# EAGLE library part STM32_VALUE_LINE_DISCOVERY (library stm32lvdiscovery)
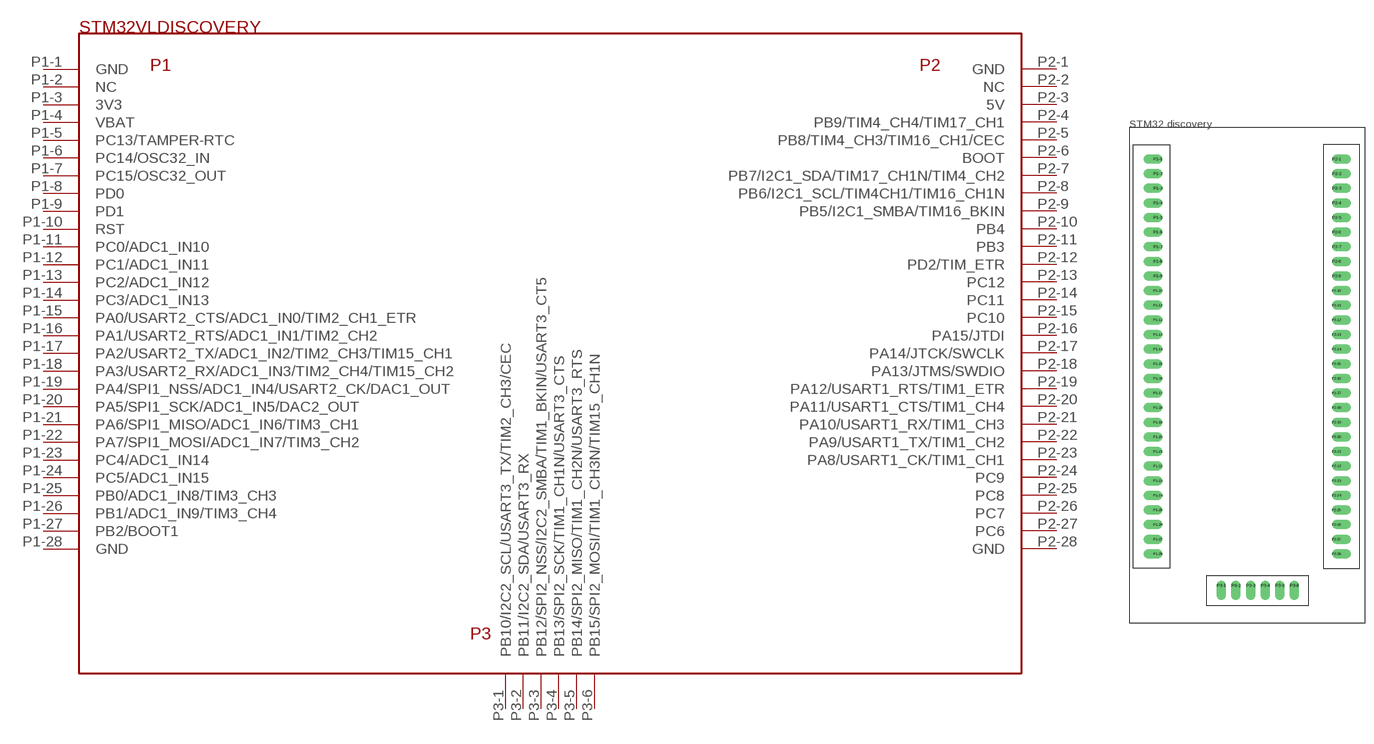
[diagram p0: symbol with the pads of STM32_VALUE_LINE_DISCOVERY; footprint STM32_VALUE_LINE_DISCOVERY]

Designator prefix -

## STM32_VALUE_LINE_DISCOVERY  [STM32_VALUE_LINE_DISCOVERY]
P1-1  GND  pwr
P1-2  NC
P1-3  3V3  pwr
P1-4  VBAT
P1-5  PC13/TAMPER-RTC
P1-6  PC14/OSC32_IN
P1-7  PC15/OSC32_OUT
P1-8  PD0
P1-9  PD1
P1-10  RST
P1-11  PC0/ADC1_IN10
P1-12  PC1/ADC1_IN11
P1-13  PC2/ADC1_IN12
P1-14  PC3/ADC1_IN13
P1-15  PA0/USART2_CTS/ADC1_IN0/TIM2_CH1_ETR
P1-16  PA1/USART2_RTS/ADC1_IN1/TIM2_CH2
P1-17  PA2/USART2_TX/ADC1_IN2/TIM2_CH3/TIM15_CH1
P1-18  PA3/USART2_RX/ADC1_IN3/TIM2_CH4/TIM15_CH2
P1-19  PA4/SPI1_NSS/ADC1_IN4/USART2_CK/DAC1_OUT
P1-20  PA5/SPI1_SCK/ADC1_IN5/DAC2_OUT
P1-21  PA6/SPI1_MISO/ADC1_IN6/TIM3_CH1
P1-22  PA7/SPI1_MOSI/ADC1_IN7/TIM3_CH2
P1-23  PC4/ADC1_IN14
P1-24  PC5/ADC1_IN15
P1-25  PB0/ADC1_IN8/TIM3_CH3
P1-26  PB1/ADC1_IN9/TIM3_CH4
P1-27  PB2/BOOT1
P1-28  GND  pwr
P2-1  GND  pwr
P2-2  NC
P2-3  5V  pwr
P2-4  PB9/TIM4_CH4/TIM17_CH1
P2-5  PB8/TIM4_CH3/TIM16_CH1/CEC
P2-6  BOOT
P2-7  PB7/I2C1_SDA/TIM17_CH1N/TIM4_CH2
P2-8  PB6/I2C1_SCL/TIM4CH1/TIM16_CH1N
P2-9  PB5/I2C1_SMBA/TIM16_BKIN
P2-10  PB4
P2-11  PB3
P2-12  PD2/TIM_ETR
P2-13  PC12
P2-14  PC11
P2-15  PC10
P2-16  PA15/JTDI
P2-17  PA14/JTCK/SWCLK
P2-18  PA13/JTMS/SWDIO
P2-19  PA12/USART1_RTS/TIM1_ETR
P2-20  PA11/USART1_CTS/TIM1_CH4
P2-21  PA10/USART1_RX/TIM1_CH3
P2-22  PA9/USART1_TX/TIM1_CH2
P2-23  PA8/USART1_CK/TIM1_CH1
P2-24  PC9
P2-25  PC8
P2-26  PC7
P2-27  PC6
P2-28  GND  pwr
P3-1  PB10/I2C2_SCL/USART3_TX/TIM2_CH3/CEC
P3-2  PB11/I2C2_SDA/USART3_RX
P3-3  PB12/SPI2_NSS/I2C2_SMBA/TIM1_BKIN/USART3_CT5
P3-4  PB13/SPI2_SCK/TIM1_CH1N/USART3_CTS
P3-5  PB14/SPI2_MISO/TIM1_CH2N/USART3_RTS
P3-6  PB15/SPI2_MOSI/TIM1_CH3N/TIM15_CH1N

## Footprint STM32_VALUE_LINE_DISCOVERY (pad centres in mm)
drill 1 pad 1.676 offset: P1-1 -16,35.58; P1-2 -16,33.04; P1-3 -16,30.5; P1-4 -16,27.96; P1-5 -16,25.42; P1-6 -16,22.88; P1-7 -16,20.34; P1-8 -16,17.8; P1-9 -16,15.26; P1-10 -16,12.72; P1-11 -16,10.18; P1-12 -16,7.64; P1-13 -16,5.1; P1-14 -16,2.56; P1-15 -16,0.02; P1-16 -16,-2.52; P1-17 -16,-5.06; P1-18 -16,-7.6; P1-19 -16,-10.14; P1-20 -16,-12.68; P1-21 -16,-15.22; P1-22 -16,-17.76; P1-23 -16,-20.3; P1-24 -16,-22.84; P1-25 -16,-25.38; P1-26 -16,-27.92; P1-27 -16,-30.46; P1-28 -16,-33; P2-1 15,35.58; P2-2 15,33.04; P2-3 15,30.5; P2-4 15,27.96; P2-5 15,25.42; P2-6 15,22.88; P2-7 15,20.34; P2-8 15,17.8; P2-9 15,15.26; P2-10 15,12.72; P2-11 15,10.18; P2-12 15,7.64; P2-13 15,5.1; P2-14 15,2.56; P2-15 15,0.02; P2-16 15,-2.52; P2-17 15,-5.06; P2-18 15,-7.6; P2-19 15,-10.14; P2-20 15,-12.68; P2-21 15,-15.22; P2-22 15,-17.76; P2-23 15,-20.3; P2-24 15,-22.84; P2-25 15,-25.38; P2-26 15,-27.92; P2-27 15,-30.46; P2-28 15,-33; P3-1 -5,-38.5; P3-2 -2.46,-38.5; P3-3 0.08,-38.5; P3-4 2.62,-38.5; P3-5 5.16,-38.5; P3-6 7.7,-38.5